# Altium schematic symbol library SOLDERED-WIRE.SchLib: 3 symbols
Pins are listed as number, name and electrical type; pins without a type are passive.

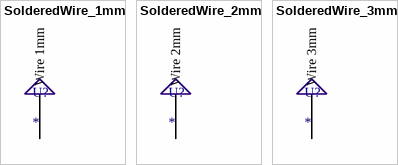
[diagram p0: symbols SolderedWire_1mm to SolderedWire_3mm]

## SolderedWire_1mm
designator U?
pins: 0 Wire 1mm

## SolderedWire_2mm
designator U?
pins: 0 Wire 2mm

## SolderedWire_3mm
designator U?
pins: 0 Wire 3mm